# Altium schematic symbol library BJT_PNP_BEC.Schlib: 1 symbol
Pins are listed as number, name and electrical type; pins without a type are passive.

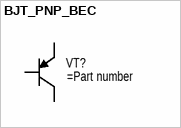
[diagram p0: symbol BJT_PNP_BEC]

## BJT_PNP_BEC
designator VT?
pins: 1 B, 2 E, 3 C